# Altium footprint library PcbLib1.PcbLib: 1 footprints
Each footprint in its own frame and in the unit in brackets; x right, y up, seen from the top. Pads: shape width x height; smd on the part's side, far side on the other; paste and mask are expansions set on the pad; w line width, h text height; cw(c..) or ccw(c..) is an arc to the next point about the centre after c.
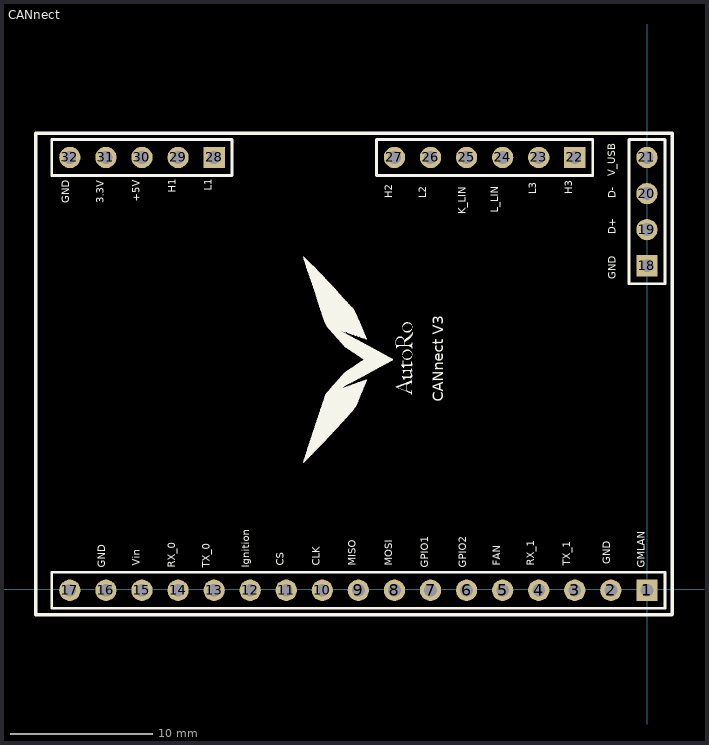
[diagram p0: the footprint, top view; thin cyan lines are the x and y axes]

## CANnect [mm]
pads (32):
  rect 1.5x1.5 hole 0.9: 1(-0.017,-0.062) 18(-0.017,22.798) 22(-5.097,30.418) 28(-30.497,30.418)
  round 1.5 hole 0.9: 2(-2.557,-0.062) 3(-5.097,-0.062) 4(-7.637,-0.062) 5(-10.177,-0.062) 6(-12.717,-0.062) 7(-15.257,-0.062) 8(-17.797,-0.062) 9(-20.337,-0.062) 10(-22.877,-0.062) 11(-25.417,-0.062) 12(-27.957,-0.062) 13(-30.497,-0.062) 14(-33.037,-0.062) 15(-35.577,-0.062) 16(-38.117,-0.062) 17(-40.657,-0.062) 19(-0.017,25.338) 20(-0.017,27.878) 21(-0.017,30.418) 23(-7.637,30.418) 24(-10.177,30.418) 25(-12.717,30.418) 26(-15.257,30.418) 27(-17.797,30.418) 29(-33.037,30.418) 30(-35.577,30.418) 31(-38.117,30.418) 32(-40.657,30.418)
Top Overlay:
  drawing of 31 lines, arcs and shapes, not listed
  text "MOSI" at -17.789,1.651 h0.89
  text "GND" at -37.982,1.524 h0.89
  text "Vin" at -35.56,1.652 h0.89
  text "RX_0" at -33.051,1.524 h0.89
  text "TX_0" at -30.638,1.524 h0.89
  text "Ignition" at -27.853,1.524 h0.89
  text "CS" at -25.41,1.651 h0.89
  text "CLK" at -22.869,1.651 h0.89
  text "MISO" at -20.329,1.651 h0.89
  text "FAN" at -10.16,1.651 h0.89
  text "RX_1" at -7.778,1.651 h0.89
  text "GPIO2" at -12.582,1.524 h0.89
  text "GMLAN" at -0.01,1.524 h0.89
  text "GND" at -2.422,1.778 h0.89
  text "TX_1" at -5.238,1.651 h0.89
  text "GPIO1" at -15.249,1.524 h0.89
  text "H3" at -5.089,27.813 h0.89
  text "L3" at -7.63,27.813 h0.89
  text "L_LIN" at -10.318,26.543 h0.89
  text "K_LIN" at -12.604,26.416 h0.89
  text "L2" at -15.367,27.559 h0.89
  text "H2" at -17.78,27.559 h0.89
  text "L1" at -30.48,28.067 h0.89
  text "H1" at -33.02,27.94 h0.89
  text "+5V" at -35.569,27.305 h0.89
  text "3.3V" at -38.109,27.178 h0.89
  text "GND" at -40.523,27.178 h0.89
  text "V_USB" at -2.063,29.084 h0.89
  text "D-" at -2.032,27.559 h0.89
  text "D+" at -2.032,25.019 h0.89
  text "GND" at -2.042,21.844 h0.89
  text "CANnect V3" at -14.111,13.208 h1.27